# Altium schematic symbol library IC_temp.SchLib: 9 symbols
Pins are listed as number, name and electrical type; pins without a type are passive.

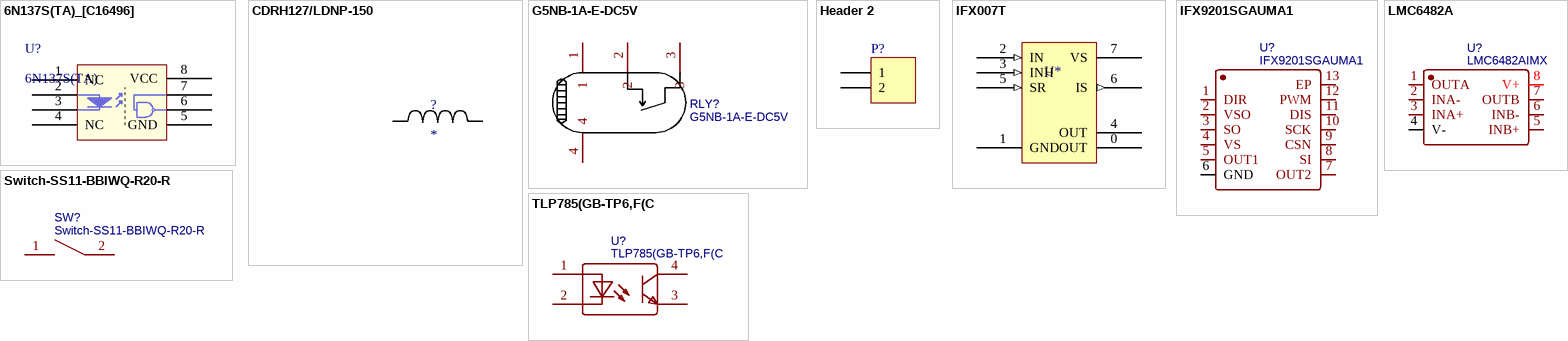
[diagram p0: symbols 6N137S(TA)_[C16496] to TLP785(GB-TP6,F(C]

## 6N137S(TA)_[C16496]
designator U?, comment 6N137S(TA)
贴片光耦; ComponentLink1Description: 供应商链接; ComponentLink1URL: http://www.szlcsc.com/product/details_17178.html; Package: SMD-8_6.3mm; Supplier: LC; SuppliersPartNumber: C16496
footprint SMD-8_6.3mm
pins: 1 NC, 2 A "Anode", 3 K "Cathode", 4 NC, 5 GND, 6 VO, 7 VE, 8 VCC

## CDRH127/LDNP-150
designator ?
Imported; Manufacturer_Part_Number: CDRH127/LDNP-150MC; Vendor: Sumida; Manufacturer_Name: Sumida; RefDes: RefDes; TYPE: TYPE; Value: Value
footprint CDRH127
pins: 1, 2

## G5NB-1A-E-DC5V
designator RLY?
BOM_Manufacturer: OMRON; BOM_Manufacturer Part: G5NB-1A-E-DC5V
footprint RELAY-TH_G5NB-1A-E-DCXX
pins: 1, 2, 3, 4

## Header 2
designator P?, comment Header 7.62  (value not drawn)
Header, 2-Pin; BOM_Manufacturer Part: 1868076; BOM_Manufacturer: Phoenix Contact
footprint MKDS 5/ 2-7,62
pins: 1, 2

## IFX007T
designator U*, comment BLDC  (value not drawn)
IFX007T
footprint TO-263-7
pins: 0 OUT, 1 GND, 2 IN (in), 3 INH (in), 4 OUT, 5 SR (in), 6 IS (out), 7 VS

## IFX9201SGAUMA1
designator U?
BOM_Manufacturer: Infineon; SMT Type: Extend; BOM_Supplier: LCSC; BOM_Manufacturer Part: IFX9201SGAUMA1; BOM_Supplier Part: C112633; BOM_JLCPCB SMD: Yes; spicePre: U; spiceSymbolName: IFX9201SGAUMA1
footprint SO-12_L6.4-W7.5-P1.00-LS10.3-BL-EP
pins: 1 DIR, 2 VSO, 3 SO, 4 VS, 5 OUT1, 6 GND, 7 OUT2, 8 SI, 9 CSN, 10 SCK, 11 DIS, 12 PWM, 13 EP

## LMC6482A
designator U?, comment LMC6482AIMX
BOM_Manufacturer: TI(德州仪器); BOM_Manufacturer Part: LMC6482AIMX
footprint SOIC-8_EP_150mil
pins: 1 OUTA, 2 INA-, 3 INA+, 4 V-, 5 INB+, 6 INB-, 7 OUTB, 8 V+

## Switch-SS11-BBIWQ-R20-R
designator SW?
SS11-BBIWQ-R20-R; BOM_Manufacturer: Legion(六钧)
footprint SW-TH_SS11-BBIWQ-XX
pins: 1, 2

## TLP785(GB-TP6,F(C
designator U?
BOM_Manufacturer: TOSHIBA; BOM_Manufacturer Part: TLP785(GB-TP6,F(C
footprint SMD-4_L4.6-W6.5-P2.54-LS10.2-BR
pins: 1, 2, 3, 4